# EAGLE library part LV8548MC (library stepper_driver)
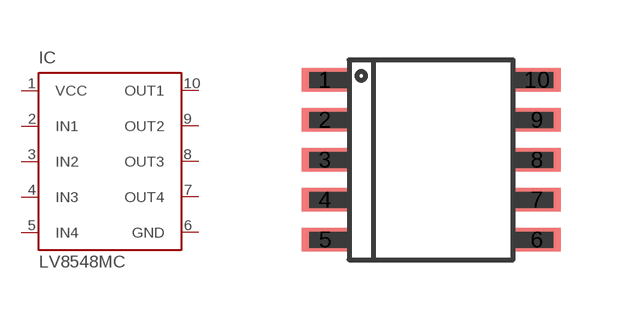
[diagram p0: symbol with the pads of MFP10S; footprint MFP10S]

Designator prefix IC

## LV8548MC  [MFP10S]
1  VCC
2  IN1
3  IN2
4  IN3
5  IN4
6  GND
7  OUT4
8  OUT3
9  OUT2
10  OUT1

## Footprint MFP10S (pad centres in mm)
smd 1.18 x 0.58: 1 -3.16,2.37; 2 -3.16,1.37; 3 -3.16,0.37; 4 -3.16,-0.63; 5 -3.16,-1.63; 6 2.14,-1.63; 7 2.14,-0.63; 8 2.14,0.37; 9 2.14,1.37; 10 2.14,2.37